# Altium integrated library TI Power Management Standard Voltage Regulator.IntLib: 214 symbols (part 7 of 7)
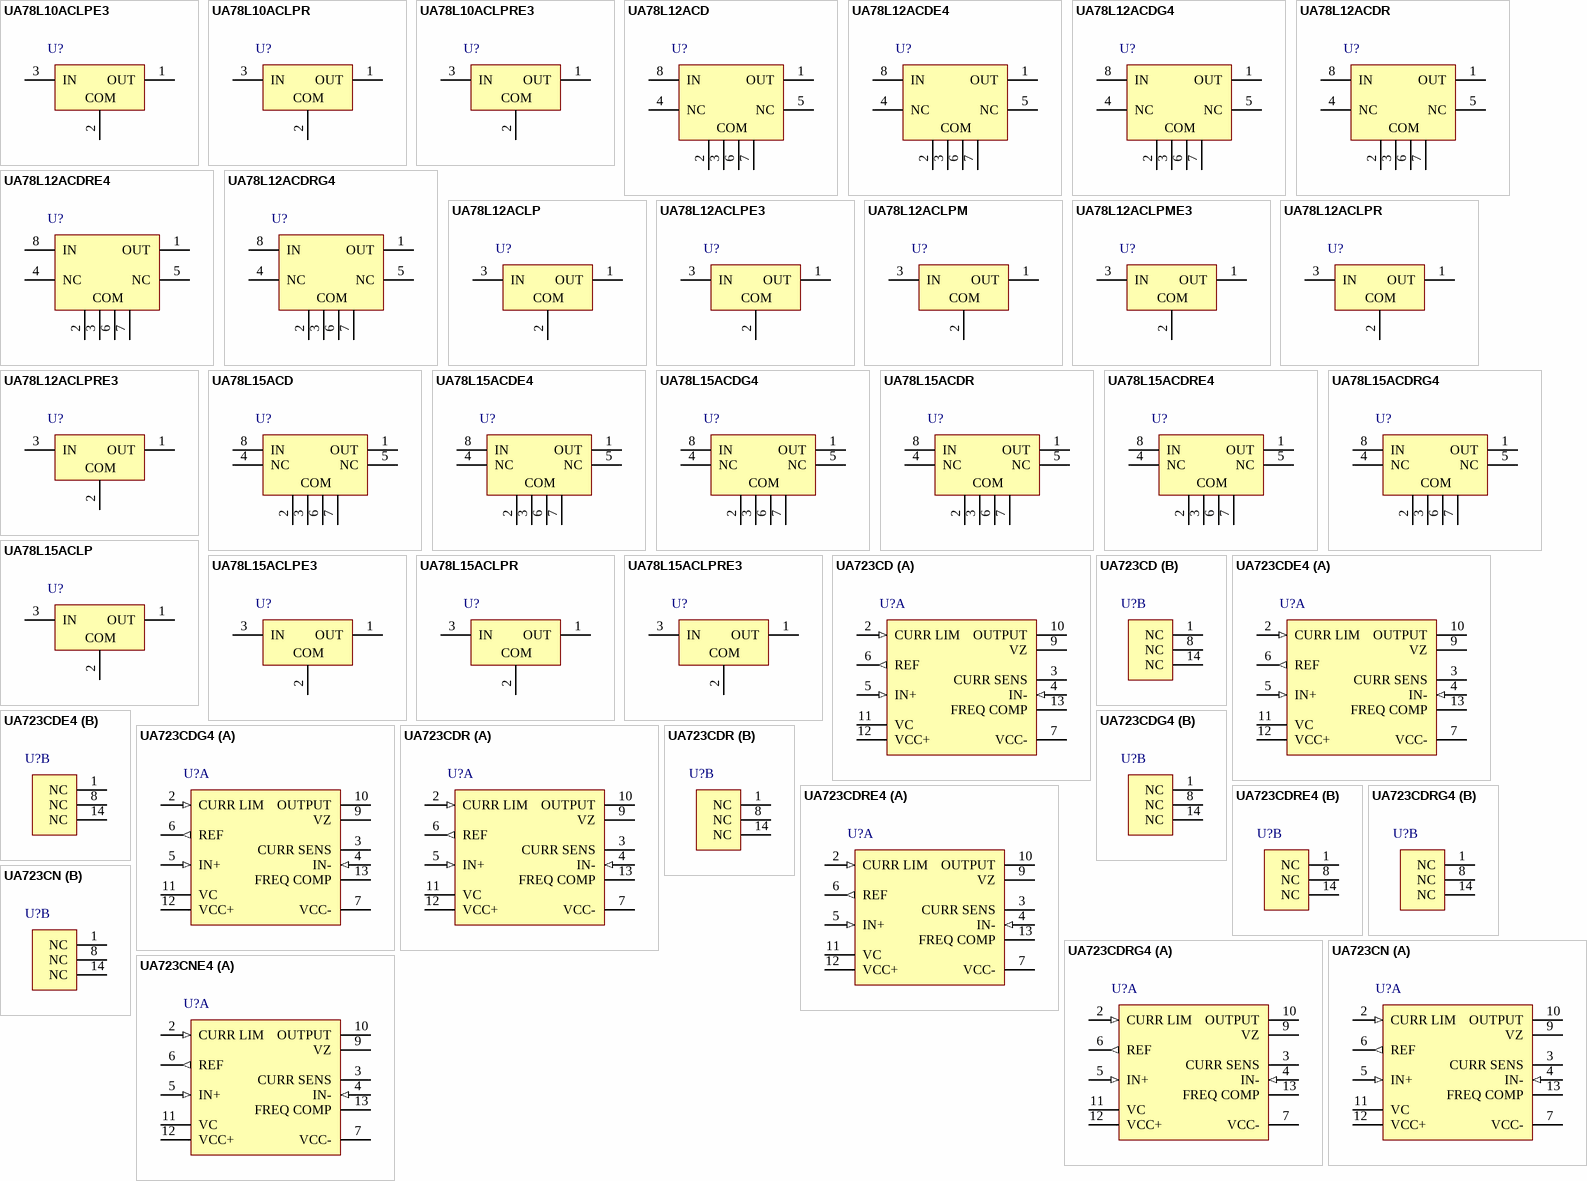
[diagram p12: symbols UA78L10ACLPE3 to UA723CNE4]

## UA723CDRE4
designator U?
Adjustable Regulator with 9.5 to 40 V Input and 2 to 37 V Output, 0 to 70 degC, 14-Pin SOIC (D), Green (RoHS & no Sb/Br); Manufacturer: Texas Instruments; PartNumber: UA723CDRE4; Iout(Max)(A): 0.15; Iq(Typ)(mA): 4; Vin(Max)(V): 40; Vin(Min)(V): 9.5; Vout(Max)(V): 37; Vout(Min)(V): 2; DatasheetVersion: SLVS057D; PackageVersion: revM, Jun-2011; PackageReference: D14; PackageDescription: 14-Pin Plastic Small Outline Integrated Circuit, 8.7 x 3.9 mm, Pitch 1.27 mm Pitch; Supplier 1: Digi-Key; Supplier Part Number 1: UA723CDRE4-ND; Supplier 2: Newark; Supplier Part Number 2: 37K4705; Supplier 3: Mouser; Supplier Part Number 3: 595-UA723CDRE4; Eco-Plan: Green (RoHS & no Sb/Br); Mounting Technology: Surface Mount; Code_JEDEC: MS-012AB; ComponentLink1Description: Datasheet; ComponentLink1URL: http://www.ti.com/general/docs/lit/getliterature.tsp?genericPartNumber=UA723&fileType=pdf; ComponentLink2Description: Package Specification; ComponentLink2URL: http://www.ti.com/lit/ml/mpds177g/mpds177g.pdf; ComponentLink3Description: URL Link1; ComponentLink3URL: Samples URL:http://www.ti.com/product/ua723#samples
footprint D14_N (SOIC, 14-Leads, Body 8.7x3.9mm, Pitch 1.27mm, IPC Medium Density)
footprint D14_L (SOIC, 14-Leads, Body 8.7x3.9mm, Pitch 1.27mm, IPC High Density)
footprint D14_M (SOIC, 14-Leads, Body 8.7x3.9mm, Pitch 1.27mm, IPC Low Density)
part A pins: 2 CURR LIM (in), 3 CURR SENS, 4 IN- (in), 5 IN+ (in), 6 REF (out), 7 VCC- (power), 9 VZ, 10 OUTPUT (power), 11 VC (power), 12 VCC+ (power), 13 FREQ COMP
part B pins: 1 NC, 8 NC, 14 NC

## UA723CDRG4
designator U?
Adjustable Regulator with 9.5 to 40 V Input and 2 to 37 V Output, 0 to 70 degC, 14-Pin SOIC (D), Green (RoHS & no Sb/Br); Manufacturer: Texas Instruments; PartNumber: UA723CDRG4; Iout(Max)(A): 0.15; Iq(Typ)(mA): 4; Vin(Max)(V): 40; Vin(Min)(V): 9.5; Vout(Max)(V): 37; Vout(Min)(V): 2; DatasheetVersion: SLVS057D; PackageVersion: revM, Jun-2011; PackageReference: D14; PackageDescription: 14-Pin Plastic Small Outline Integrated Circuit, 8.7 x 3.9 mm, Pitch 1.27 mm Pitch; Supplier 1: Digi-Key; Supplier Part Number 1: UA723CDRG4-ND; Supplier 2: Newark; Supplier Part Number 2: 41M6390; Supplier 3: Mouser; Supplier Part Number 3: 595-UA723CDRG4; Eco-Plan: Green (RoHS & no Sb/Br); Mounting Technology: Surface Mount; Code_JEDEC: MS-012AB; ComponentLink1Description: Datasheet; ComponentLink1URL: http://www.ti.com/general/docs/lit/getliterature.tsp?genericPartNumber=UA723&fileType=pdf; ComponentLink2Description: Package Specification; ComponentLink2URL: http://www.ti.com/lit/ml/mpds177g/mpds177g.pdf; ComponentLink3Description: URL Link1; ComponentLink3URL: Samples URL:http://www.ti.com/product/ua723#samples
footprint D14_N (SOIC, 14-Leads, Body 8.7x3.9mm, Pitch 1.27mm, IPC Medium Density)
footprint D14_L (SOIC, 14-Leads, Body 8.7x3.9mm, Pitch 1.27mm, IPC High Density)
footprint D14_M (SOIC, 14-Leads, Body 8.7x3.9mm, Pitch 1.27mm, IPC Low Density)
part A pins: 2 CURR LIM (in), 3 CURR SENS, 4 IN- (in), 5 IN+ (in), 6 REF (out), 7 VCC- (power), 9 VZ, 10 OUTPUT (power), 11 VC (power), 12 VCC+ (power), 13 FREQ COMP
part B pins: 1 NC, 8 NC, 14 NC

## UA723CN
designator U?
Adjustable Regulator with 9.5 to 40 V Input and 2 to 37 V Output, 0 to 70 degC, 14-Pin PDIP (N), Pb-Free (RoHS); Manufacturer: Texas Instruments; PartNumber: UA723CN; Iout(Max)(A): 0.15; Iq(Typ)(mA): 4; Vin(Max)(V): 40; Vin(Min)(V): 9.5; Vout(Max)(V): 37; Vout(Min)(V): 2; DatasheetVersion: SLVS057D; PackageVersion: revE, Dec-2002; PackageReference: N14; PackageDescription: 14-Pin Plastic Dual-In-Line Package, Row Spacing 7.62 mm, Pitch 2.54 mm; Supplier 1: Digi-Key; Supplier Part Number 1: 296-11104-5-ND; Supplier 2: Farnell; Supplier Part Number 2: 2393920; Supplier 3: Newark; Supplier Part Number 3: 09F1473; Supplier 4: Mouser; Supplier Part Number 4: 595-UA723CN; Eco-Plan: Pb-Free (RoHS); Mounting Technology: Through Hole; Code_JEDEC: MS-001; ComponentLink1Description: Datasheet; ComponentLink1URL: http://www.ti.com/general/docs/lit/getliterature.tsp?genericPartNumber=UA723&fileType=pdf; ComponentLink2Description: Package Specification; ComponentLink2URL: http://www.ti.com/litv/pdf/mplc004a; ComponentLink3Description: URL Link1; ComponentLink3URL: Samples URL:http://www.ti.com/product/ua723#samples
footprint N14 (DIP, 14-Leads, Row Spacing 7.62mm, Pitch 2.54mm, Body 19.3x6.4mm)
part A pins: 2 CURR LIM (in), 3 CURR SENS, 4 IN- (in), 5 IN+ (in), 6 REF (out), 7 VCC- (power), 9 VZ, 10 OUTPUT (power), 11 VC (power), 12 VCC+ (power), 13 FREQ COMP
part B pins: 1 NC, 8 NC, 14 NC
2 alternate drawings of the same symbol

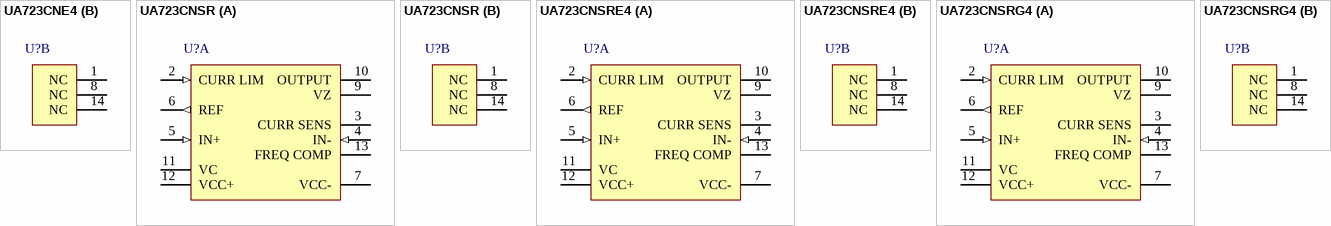
[diagram p6: symbols UA723CNE4 to UA723CNSRG4]

## UA723CNE4
designator U?
Adjustable Regulator with 9.5 to 40 V Input and 2 to 37 V Output, 0 to 70 degC, 14-Pin PDIP (N), Pb-Free (RoHS); Manufacturer: Texas Instruments; PartNumber: UA723CNE4; Iout(Max)(A): 0.15; Iq(Typ)(mA): 4; Vin(Max)(V): 40; Vin(Min)(V): 9.5; Vout(Max)(V): 37; Vout(Min)(V): 2; DatasheetVersion: SLVS057D; PackageVersion: revE, Dec-2002; PackageReference: N14; PackageDescription: 14-Pin Plastic Dual-In-Line Package, Row Spacing 7.62 mm, Pitch 2.54 mm; Supplier 1: Digi-Key; Supplier Part Number 1: UA723CNE4-ND; Supplier 2: Newark; Supplier Part Number 2: 63K6629; Supplier 3: Mouser; Supplier Part Number 3: 595-UA723CNE4; Eco-Plan: Pb-Free (RoHS); Mounting Technology: Through Hole; Code_JEDEC: MS-001; ComponentLink1Description: Datasheet; ComponentLink1URL: http://www.ti.com/general/docs/lit/getliterature.tsp?genericPartNumber=UA723&fileType=pdf; ComponentLink2Description: Package Specification; ComponentLink2URL: http://www.ti.com/litv/pdf/mplc004a; ComponentLink3Description: URL Link1; ComponentLink3URL: Samples URL:http://www.ti.com/product/ua723#samples
footprint N14 (DIP, 14-Leads, Row Spacing 7.62mm, Pitch 2.54mm, Body 19.3x6.4mm)
part A pins: 2 CURR LIM (in), 3 CURR SENS, 4 IN- (in), 5 IN+ (in), 6 REF (out), 7 VCC- (power), 9 VZ, 10 OUTPUT (power), 11 VC (power), 12 VCC+ (power), 13 FREQ COMP
part B pins: 1 NC, 8 NC, 14 NC
2 alternate drawings of the same symbol

## UA723CNSR
designator U?
Adjustable Regulator with 9.5 to 40 V Input and 2 to 37 V Output, 0 to 70 degC, 14-Pin SO (NS), Green (RoHS & no Sb/Br); Manufacturer: Texas Instruments; PartNumber: UA723CNSR; Iout(Max)(A): 0.15; Iq(Typ)(mA): 4; Vin(Max)(V): 40; Vin(Min)(V): 9.5; Vout(Max)(V): 37; Vout(Min)(V): 2; DatasheetVersion: SLVS057D; PackageVersion: revC, Mar-2003; PackageReference: NS14; PackageDescription: 14-Pin Plastic Small Outline Package, 10.2 x 5.3 mm Body, 1.27 mm Pitch; Supplier 1: Digi-Key; Supplier Part Number 1: 296-28888-2-ND; Supplier 2: Digi-Key; Supplier Part Number 2: 296-28888-1-ND; Supplier 3: Digi-Key; Supplier Part Number 3: 296-28888-6-ND; Supplier 4: Newark; Supplier Part Number 4: 22H1893; Supplier 5: Mouser; Supplier Part Number 5: 595-UA723CNSR; Eco-Plan: Green (RoHS & no Sb/Br); Mounting Technology: Surface Mount; ComponentLink1Description: Datasheet; ComponentLink1URL: http://www.ti.com/general/docs/lit/getliterature.tsp?genericPartNumber=UA723&fileType=pdf; ComponentLink2Description: Package Specification; ComponentLink2URL: http://www.ti.com/litv/pdf/msop002a; ComponentLink3Description: URL Link1; ComponentLink3URL: Samples URL:http://www.ti.com/product/ua723#samples
footprint NS14_N (SOP, 14-Leads, Body 10.2x5.3mm, Pitch 1.27mm, IPC Medium Density)
footprint NS14_L (SOP, 14-Leads, Body 10.2x5.3mm, Pitch 1.27mm, IPC High Density)
footprint NS14_M (SOP, 14-Leads, Body 10.2x5.3mm, Pitch 1.27mm, IPC Low Density)
part A pins: 2 CURR LIM (in), 3 CURR SENS, 4 IN- (in), 5 IN+ (in), 6 REF (out), 7 VCC- (power), 9 VZ, 10 OUTPUT (power), 11 VC (power), 12 VCC+ (power), 13 FREQ COMP
part B pins: 1 NC, 8 NC, 14 NC

## UA723CNSRE4
designator U?
Adjustable Regulator with 9.5 to 40 V Input and 2 to 37 V Output, 0 to 70 degC, 14-Pin SO (NS), Green (RoHS & no Sb/Br); Manufacturer: Texas Instruments; PartNumber: UA723CNSRE4; Iout(Max)(A): 0.15; Iq(Typ)(mA): 4; Vin(Max)(V): 40; Vin(Min)(V): 9.5; Vout(Max)(V): 37; Vout(Min)(V): 2; DatasheetVersion: SLVS057D; PackageVersion: revC, Mar-2003; PackageReference: NS14; PackageDescription: 14-Pin Plastic Small Outline Package, 10.2 x 5.3 mm Body, 1.27 mm Pitch; Supplier 1: Digi-Key; Supplier Part Number 1: UA723CNSRE4-ND; Supplier 2: Newark; Supplier Part Number 2: 40K9813; Supplier 3: Mouser; Supplier Part Number 3: 595-UA723CNSRE4; Eco-Plan: Green (RoHS & no Sb/Br); Mounting Technology: Surface Mount; ComponentLink1Description: Datasheet; ComponentLink1URL: http://www.ti.com/general/docs/lit/getliterature.tsp?genericPartNumber=UA723&fileType=pdf; ComponentLink2Description: Package Specification; ComponentLink2URL: http://www.ti.com/litv/pdf/msop002a; ComponentLink3Description: URL Link1; ComponentLink3URL: Samples URL:http://www.ti.com/product/ua723#samples
footprint NS14_N (SOP, 14-Leads, Body 10.2x5.3mm, Pitch 1.27mm, IPC Medium Density)
footprint NS14_L (SOP, 14-Leads, Body 10.2x5.3mm, Pitch 1.27mm, IPC High Density)
footprint NS14_M (SOP, 14-Leads, Body 10.2x5.3mm, Pitch 1.27mm, IPC Low Density)
part A pins: 2 CURR LIM (in), 3 CURR SENS, 4 IN- (in), 5 IN+ (in), 6 REF (out), 7 VCC- (power), 9 VZ, 10 OUTPUT (power), 11 VC (power), 12 VCC+ (power), 13 FREQ COMP
part B pins: 1 NC, 8 NC, 14 NC

## UA723CNSRG4
designator U?
Adjustable Regulator with 9.5 to 40 V Input and 2 to 37 V Output, 0 to 70 degC, 14-Pin SO (NS), Green (RoHS & no Sb/Br); Manufacturer: Texas Instruments; PartNumber: UA723CNSRG4; Iout(Max)(A): 0.15; Iq(Typ)(mA): 4; Vin(Max)(V): 40; Vin(Min)(V): 9.5; Vout(Max)(V): 37; Vout(Min)(V): 2; DatasheetVersion: SLVS057D; PackageVersion: revC, Mar-2003; PackageReference: NS14; PackageDescription: 14-Pin Plastic Small Outline Package, 10.2 x 5.3 mm Body, 1.27 mm Pitch; Supplier 1: Digi-Key; Supplier Part Number 1: UA723CNSRG4-ND; Supplier 2: Newark; Supplier Part Number 2: 46M9645; Supplier 3: Mouser; Supplier Part Number 3: 595-UA723CNSRG4; Eco-Plan: Green (RoHS & no Sb/Br); Mounting Technology: Surface Mount; ComponentLink1Description: Datasheet; ComponentLink1URL: http://www.ti.com/general/docs/lit/getliterature.tsp?genericPartNumber=UA723&fileType=pdf; ComponentLink2Description: Package Specification; ComponentLink2URL: http://www.ti.com/litv/pdf/msop002a; ComponentLink3Description: URL Link1; ComponentLink3URL: Samples URL:http://www.ti.com/product/ua723#samples
footprint NS14_N (SOP, 14-Leads, Body 10.2x5.3mm, Pitch 1.27mm, IPC Medium Density)
footprint NS14_L (SOP, 14-Leads, Body 10.2x5.3mm, Pitch 1.27mm, IPC High Density)
footprint NS14_M (SOP, 14-Leads, Body 10.2x5.3mm, Pitch 1.27mm, IPC Low Density)
part A pins: 2 CURR LIM (in), 3 CURR SENS, 4 IN- (in), 5 IN+ (in), 6 REF (out), 7 VCC- (power), 9 VZ, 10 OUTPUT (power), 11 VC (power), 12 VCC+ (power), 13 FREQ COMP
part B pins: 1 NC, 8 NC, 14 NC